# EAGLE library part SIMII72 (library con-amp)
AMP connector
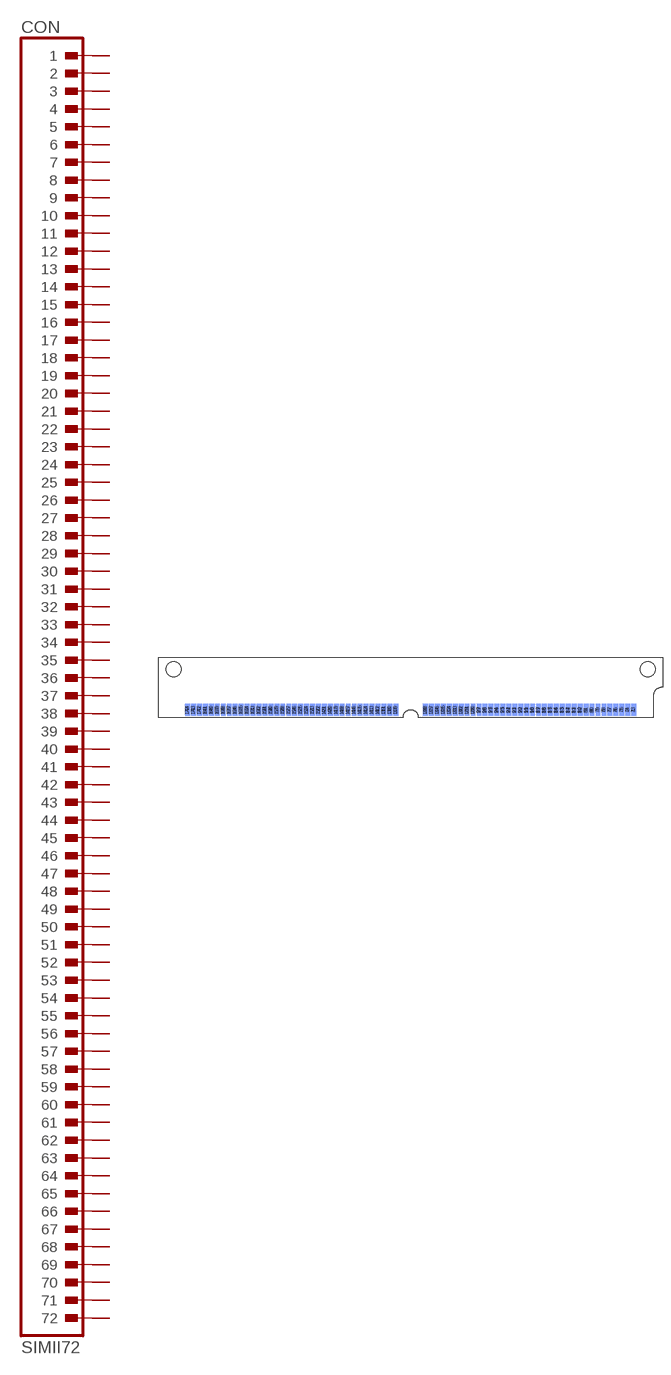
[diagram p24: symbol with the pads of SIMM72R; footprint SIMM72R]

Designator prefix CON

## SIMII72  [SIMM72R]
1  1  pas
2  2  pas
3  3  pas
4  4  pas
5  5  pas
6  6  pas
7  7  pas
8  8  pas
9  9  pas
10  10  pas
11  11  pas
12  12  pas
13  13  pas
14  14  pas
15  15  pas
16  16  pas
17  17  pas
18  18  pas
19  19  pas
20  20  pas
21  21  pas
22  22  pas
23  23  pas
24  24  pas
25  25  pas
26  26  pas
27  27  pas
28  28  pas
29  29  pas
30  30  pas
31  31  pas
32  32  pas
33  33  pas
34  34  pas
35  35  pas
36  36  pas
37  37  pas
38  38  pas
39  39  pas
40  40  pas
41  41  pas
42  42  pas
43  43  pas
44  44  pas
45  45  pas
46  46  pas
47  47  pas
48  48  pas
49  49  pas
50  50  pas
51  51  pas
52  52  pas
53  53  pas
54  54  pas
55  55  pas
56  56  pas
57  57  pas
58  58  pas
59  59  pas
60  60  pas
61  61  pas
62  62  pas
63  63  pas
64  64  pas
65  65  pas
66  66  pas
67  67  pas
68  68  pas
69  69  pas
70  70  pas
71  71  pas
72  72  pas
73  73  pas
74  74  pas
75  75  pas
76  76  pas
77  77  pas
78  78  pas
79  79  pas
80  80  pas
81  81  pas
82  82  pas
83  83  pas
84  84  pas
85  85  pas
86  86  pas
87  87  pas
88  88  pas
89  89  pas
90  90  pas
91  91  pas
92  92  pas
93  93  pas
94  94  pas
95  95  pas
96  96  pas
97  97  pas
98  98  pas
99  99  pas
100  100  pas
101  101  pas
102  102  pas
103  103  pas
104  104  pas
105  105  pas
106  106  pas
107  107  pas
108  108  pas
109  109  pas
110  110  pas
111  111  pas
112  112  pas
113  113  pas
114  114  pas
115  115  pas
116  116  pas
117  117  pas
118  118  pas
119  119  pas
120  120  pas
121  121  pas
122  122  pas
123  123  pas
124  124  pas
125  125  pas
126  126  pas
127  127  pas
128  128  pas
129  129  pas
130  130  pas
131  131  pas
132  132  pas
133  133  pas
134  134  pas
135  135  pas
136  136  pas
137  137  pas
138  138  pas
139  139  pas
140  140  pas
141  141  pas
142  142  pas
143  143  pas
144  144  pas

## Footprint SIMM72R (pad centres in mm)
SIMM II 72 Right Polarization
smd 1.041 x 2.54: 1 47.625,-8.636; 2 46.355,-8.636; 3 45.085,-8.636; 4 43.815,-8.636; 5 42.545,-8.636; 6 41.275,-8.636; 7 40.005,-8.636; 8 38.735,-8.636; 9 37.465,-8.636; 10 36.195,-8.636; 11 34.925,-8.636; 12 33.655,-8.636; 13 32.385,-8.636; 14 31.115,-8.636; 15 29.845,-8.636; 16 28.575,-8.636; 17 27.305,-8.636; 18 26.035,-8.636; 19 24.765,-8.636; 20 23.495,-8.636; 21 22.225,-8.636; 22 20.955,-8.636; 23 19.685,-8.636; 24 18.415,-8.636; 25 17.145,-8.636; 26 15.875,-8.636; 27 14.605,-8.636; 28 13.335,-8.636; 29 12.065,-8.636; 30 10.795,-8.636; 31 9.525,-8.636; 32 8.255,-8.636; 33 6.985,-8.636; 34 5.715,-8.636; 35 4.445,-8.636; 36 3.175,-8.636; 37 -3.175,-8.636; 38 -4.445,-8.636; 39 -5.715,-8.636; 40 -6.985,-8.636; 41 -8.255,-8.636; 42 -9.525,-8.636; 43 -10.795,-8.636; 44 -12.065,-8.636; 45 -13.335,-8.636; 46 -14.605,-8.636; 47 -15.875,-8.636; 48 -17.145,-8.636; 49 -18.415,-8.636; 50 -19.685,-8.636; 51 -20.955,-8.636; 52 -22.225,-8.636; 53 -23.495,-8.636; 54 -24.765,-8.636; 55 -26.035,-8.636; 56 -27.305,-8.636; 57 -28.575,-8.636; 58 -29.845,-8.636; 59 -31.115,-8.636; 60 -32.385,-8.636; 61 -33.655,-8.636; 62 -34.925,-8.636; 63 -36.195,-8.636; 64 -37.465,-8.636; 65 -38.735,-8.636; 66 -40.005,-8.636; 67 -41.275,-8.636; 68 -42.545,-8.636; 69 -43.815,-8.636; 70 -45.085,-8.636; 71 -46.355,-8.636; 72 -47.625,-8.636
smd 1.041 x 2.54 bottom: 73 47.625,-8.636; 74 46.355,-8.636; 75 45.085,-8.636; 76 43.815,-8.636; 77 42.545,-8.636; 78 41.275,-8.636; 79 40.005,-8.636; 80 38.735,-8.636; 81 37.465,-8.636; 82 36.195,-8.636; 83 34.925,-8.636; 84 33.655,-8.636; 85 32.385,-8.636; 86 31.115,-8.636; 87 29.845,-8.636; 88 28.575,-8.636; 89 27.305,-8.636; 90 26.035,-8.636; 91 24.765,-8.636; 92 23.495,-8.636; 93 22.225,-8.636; 94 20.955,-8.636; 95 19.685,-8.636; 96 18.415,-8.636; 97 17.145,-8.636; 98 15.875,-8.636; 99 14.605,-8.636; 100 13.335,-8.636; 101 12.065,-8.636; 102 10.795,-8.636; 103 9.525,-8.636; 104 8.255,-8.636; 105 6.985,-8.636; 106 5.715,-8.636; 107 4.445,-8.636; 108 3.175,-8.636; 109 -3.175,-8.636; 110 -4.445,-8.636; 111 -5.715,-8.636; 112 -6.985,-8.636; 113 -8.255,-8.636; 114 -9.525,-8.636; 115 -10.795,-8.636; 116 -12.065,-8.636; 117 -13.335,-8.636; 118 -14.605,-8.636; 119 -15.875,-8.636; 120 -17.145,-8.636; 121 -18.415,-8.636; 122 -19.685,-8.636; 123 -20.955,-8.636; 124 -22.225,-8.636; 125 -23.495,-8.636; 126 -24.765,-8.636; 127 -26.035,-8.636; 128 -27.305,-8.636; 129 -28.575,-8.636; 130 -29.845,-8.636; 131 -31.115,-8.636; 132 -32.385,-8.636; 133 -33.655,-8.636; 134 -34.925,-8.636; 135 -36.195,-8.636; 136 -37.465,-8.636; 137 -38.735,-8.636; 138 -40.005,-8.636; 139 -41.275,-8.636; 140 -42.545,-8.636; 141 -43.815,-8.636; 142 -45.085,-8.636; 143 -46.355,-8.636; 144 -47.625,-8.636
hole 3.175 at -50.597,0
hole 3.175 at 50.597,0